# Altium footprint library AMPHENOL_87583-3010RPALF.PcbLib: 1 footprints
Each footprint in its own frame and in the unit in brackets; x right, y up, seen from the top. Pads: shape width x height; smd on the part's side, far side on the other; paste and mask are expansions set on the pad; w line width, h text height; cw(c..) or ccw(c..) is an arc to the next point about the centre after c.
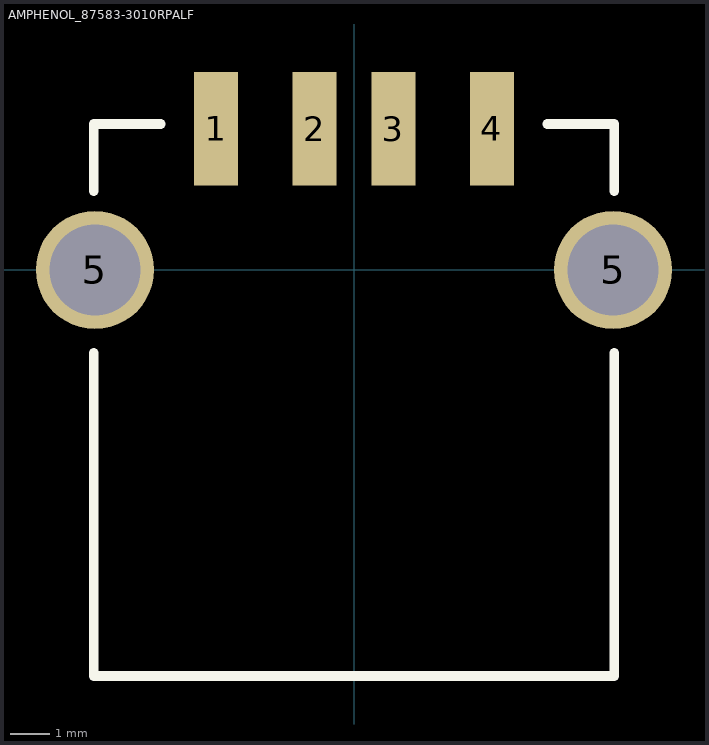
[diagram p0: the footprint, top view; thin cyan lines are the x and y axes]

## AMPHENOL_87583-3010RPALF [mm] "USB 2.0 Receptacle, Right Angle"
pads (6):
  rect 1.12x2.88 smd: 1(-3.5,3.58) 2(-1,3.58) 3(1,3.58) 4(3.5,3.58)
  round 3 hole 2.3: 5(-6.57,0) 5(6.57,0)
Top Overlay:
  lines w0.25: -6.6,-2.1 -6.6,-10.3 6.6,-10.3 6.6,-2.1 ; -6.6,2 -6.6,3.7 -4.9,3.7 ; 4.9,3.7 6.6,3.7 6.6,2